# EAGLE library part SN754410 (library IC)
Texas Instruments Quadruple Half-H Driver
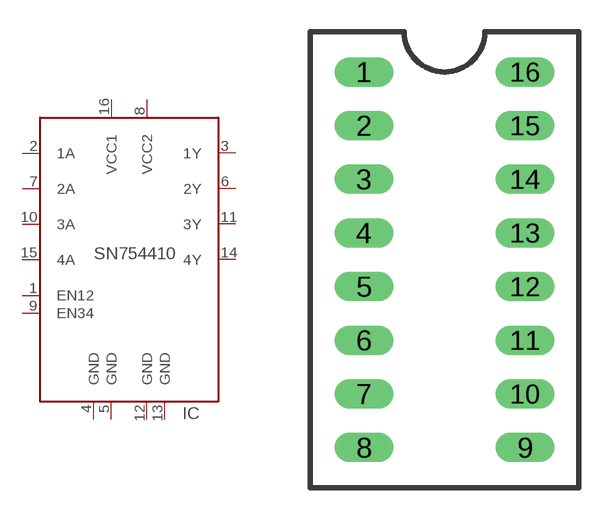
[diagram p43: symbol with the pads of DIP-16; footprint DIP-16]

Designator prefix IC

## SN754410  [DIP-16]
1  EN12
2  1A
3  1Y
4  GND
5  GND
6  2Y
7  2A
8  VCC2
9  EN34
10  3A
11  3Y
12  GND
13  GND
14  4Y
15  4A
16  VCC1

## Footprint DIP-16 (pad centres in mm)
drill 0.889 long: 1 -3.81,8.89; 2 -3.81,6.35; 3 -3.81,3.81; 4 -3.81,1.27; 5 -3.81,-1.27; 6 -3.81,-3.81; 7 -3.81,-6.35; 8 -3.81,-8.89; 9 3.81,-8.89; 10 3.81,-6.35; 11 3.81,-3.81; 12 3.81,-1.27; 13 3.81,1.27; 14 3.81,3.81; 15 3.81,6.35; 16 3.81,8.89